# Altium schematic symbol library PG151101S11.SchLib: 1 symbol
Pins are listed as number, name and electrical type; pins without a type are passive.

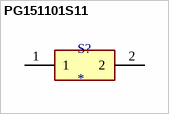
[diagram p0: symbol PG151101S11]

## PG151101S11
designator S?
Keyswitch; MF: {'manufacturer': u'Kailh'}; MP: PG151101S11; Availability: Unavailable; Price: None; Package: None; Value: *
footprint SW_PG151101S11
pins: 1, 2